# Altium schematic symbol library WIRE_SLDR_PAD.SchLib: 1 symbol
Pins are listed as number, name and electrical type; pins without a type are passive.

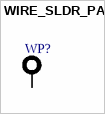
[diagram p0: symbol WIRE_SLDR_PAD]

## WIRE_SLDR_PAD
designator WP?  (value not drawn)
pins: 0